# Altium integrated library TI Power Management Step-Down Regulator.IntLib: 531 symbols (part 24 of 32)
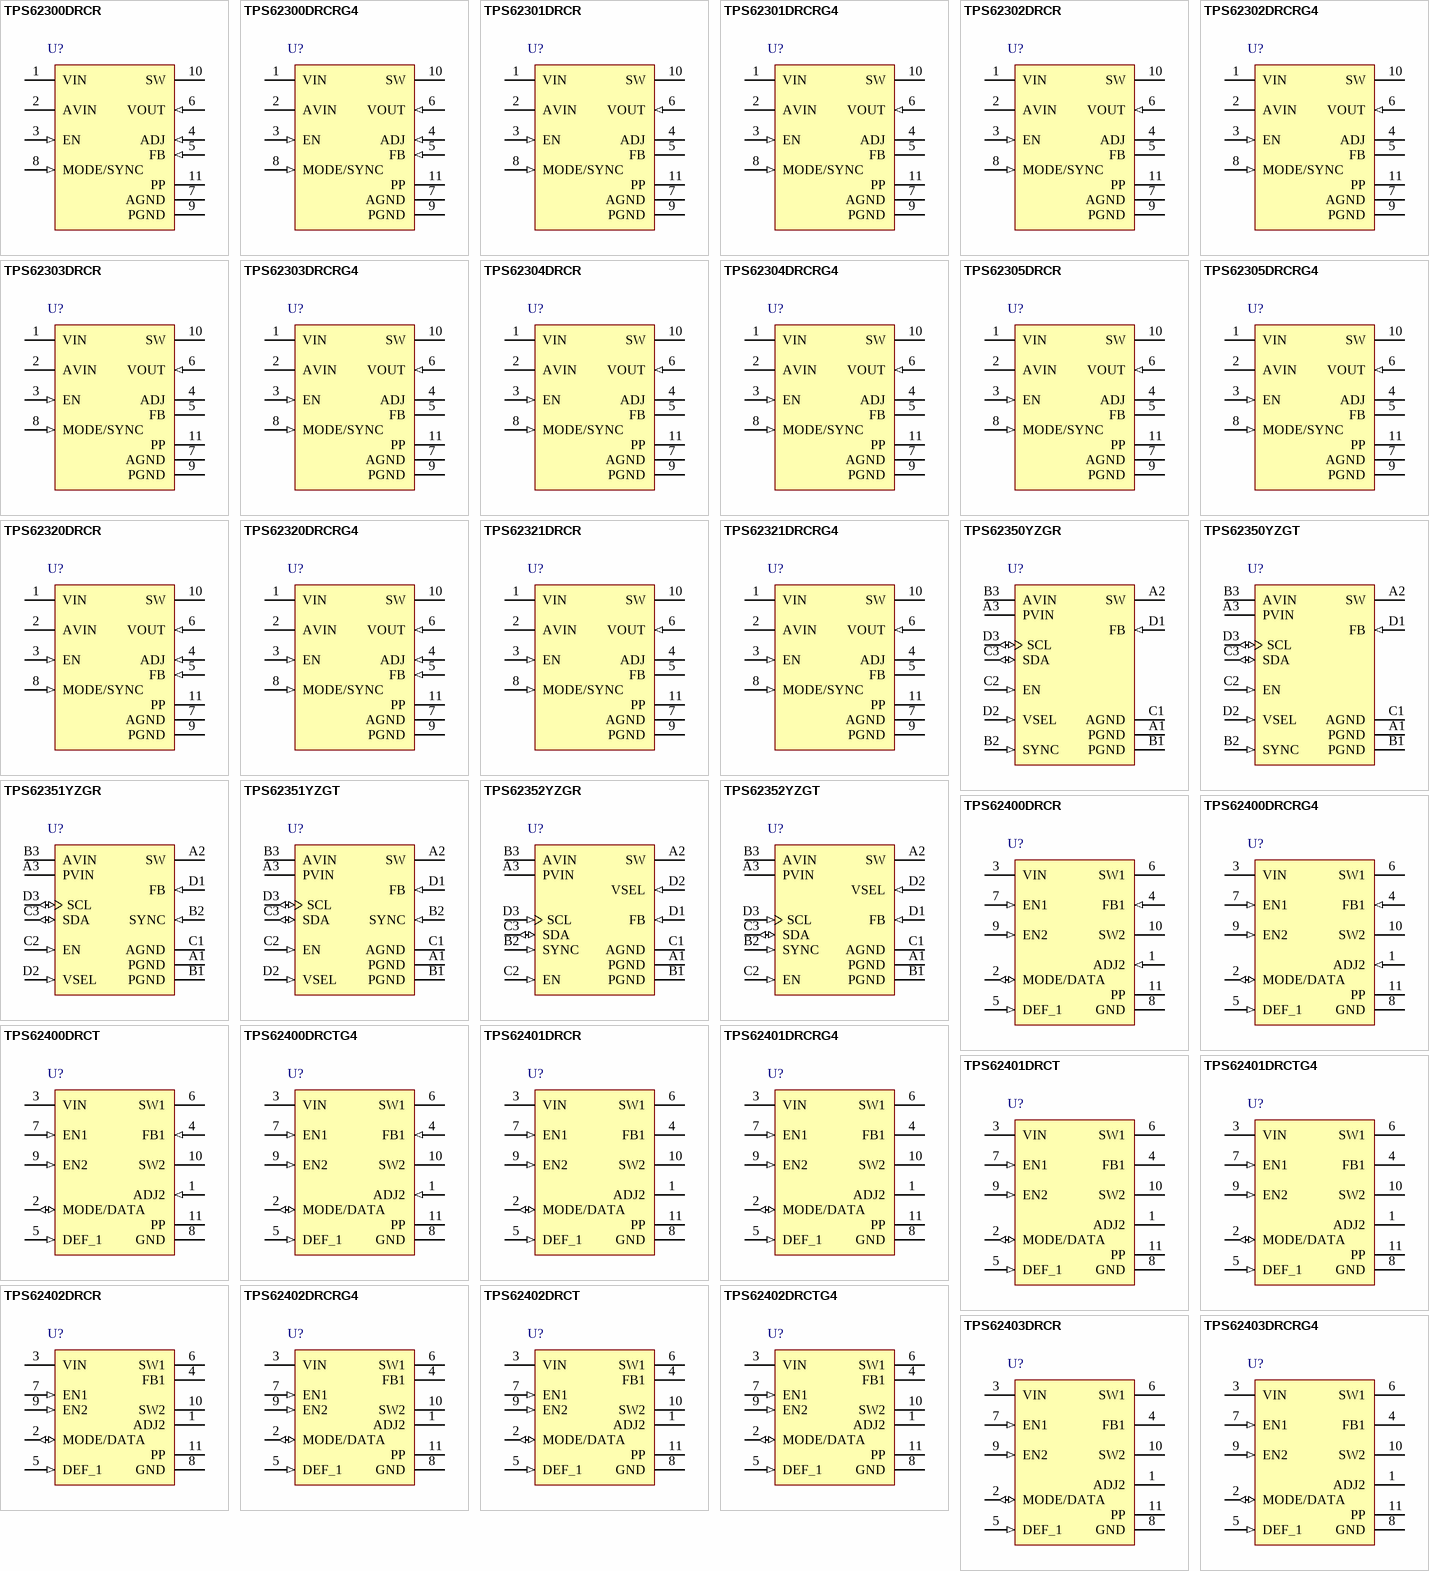
[diagram p41: symbols TPS62300DRCR to TPS62403DRCRG4]

## TPS62304DRCRG4
designator U?
Buck Step Down Regulator with 2.7 to 6 V Input and 1.2 V Output, -40 to 85 degC, 10-Pin SON (DRC), Green (RoHS & no Sb/Br); PartNumber: TPS62304DRCRG4; Manufacturer: Texas Instruments; Duty Cycle(Max)(%): 100; Iout(Max)(A): 0.5; Iq(Typ)(mA): 0.086; Preset Vout(V): 1.2; Rating: Catalog; Regulated Outputs(#): 1; SubFamily: Step-Down Regulator; Switch Current Limit(Typ)(A): 0.74; Synchronous Rectification: TRUE; Vin(Max)(V): 6; Vin(Min)(V): 2.7; DatasheetVersion: SLVS528E; PackageVersion: revL, Sep-2011; PackageReference: DRC10-2400X1650TP; PackageDescription: 10-Pin Plastic Small Outline No-Lead, 3 x 3 x 1 mm Body, 0.5 mm Pitch, Exposed Pad; Supplier 1: Digi-Key; Supplier Part Number 1: TPS62304DRCRG4-ND; Supplier 2: Newark; Supplier Part Number 2: 73K9610; Supplier 3: Mouser; Supplier Part Number 3: 595-TPS62304DRCRG4; Eco-Plan: Green (RoHS & no Sb/Br); Topology: Buck; Vout(Max)(V): 1.2; Vout(Min)(V): 1.2; Mounting Technology: Surface Mount; ComponentLink1Description: Datasheet; ComponentLink1URL: http://www.ti.com/general/docs/lit/getliterature.tsp?genericPartNumber=TPS62304&fileType=pdf; ComponentLink2Description: URL Link1; ComponentLink2URL: Samples URL:http://www.ti.com/product/tps62304#samples
footprint DRC10-2400X1650TP (SON, 10-Leads, Body 3x3mm, Pitch 0.5mm, Thermal Pad 2.4x1.65mm, TI Recommended)
pins: 1 VIN (power) "Supply voltage for output power stage.", 2 AVIN (power) "This is the input voltage pin of the device. Connect directly to the input bypass capacitor.", 3 EN (in) "This is the enable pin of the device. Connecting this pin to ground forces the device into shutdown mode. Pulling this pin to VI enables the device. This pin must not be left floating and must be terminated.", 4 ADJ "No Connect", 5 FB "No Connect", 6 VOUT (in) "Output feedback sense input. Connect VOUT to the converter’s output.", 7 AGND (power) "Analog ground. Connect to PGND via the PowerPAD underneath IC.", 8 MODE/SYNC (in) "Input for synchronization to external clock signal. This pin must not be left floating and must be terminated. Synchronizes the converter switching frequency to an external clock signal  MODE/SYNC = LOW (GND): The device is (See Datasheet)", 9 PGND (power) "Power ground.", 10 SW (power) "This is the switch pin of the converter and is connected to the drain of the internal Power MOSFETs.", 11 PP (power) "Internally connected to PGND."

## TPS62305DRCR
designator U?
Buck Step Down Regulator with 2.7 to 6 V Input and 1.875 V Output, -40 to 85 degC, 10-Pin SON (DRC), Green (RoHS & no Sb/Br); PartNumber: TPS62305DRCR; Manufacturer: Texas Instruments; Duty Cycle(Max)(%): 100; Iout(Max)(A): 0.5; Iq(Typ)(mA): 0.086; Preset Vout(V): 1.875; Rating: Catalog; Regulated Outputs(#): 1; SubFamily: Step-Down Regulator; Switch Current Limit(Typ)(A): 0.74; Synchronous Rectification: TRUE; Vin(Max)(V): 6; Vin(Min)(V): 2.7; DatasheetVersion: SLVS528E; PackageVersion: revL, Sep-2011; PackageReference: DRC10-2400X1650TP; PackageDescription: 10-Pin Plastic Small Outline No-Lead, 3 x 3 x 1 mm Body, 0.5 mm Pitch, Exposed Pad; Supplier 1: Digi-Key; Supplier Part Number 1: 296-18984-2-ND; Supplier 2: Digi-Key; Supplier Part Number 2: 296-18984-1-ND; Supplier 3: Digi-Key; Supplier Part Number 3: 296-18984-6-ND; Supplier 4: Newark; Supplier Part Number 4: 21J9249; Supplier 5: Mouser; Supplier Part Number 5: 595-TPS62305DRCR; Eco-Plan: Green (RoHS & no Sb/Br); Topology: Buck; Vout(Max)(V): 1.875; Vout(Min)(V): 1.875; Mounting Technology: Surface Mount; ComponentLink1Description: Datasheet; ComponentLink1URL: http://www.ti.com/general/docs/lit/getliterature.tsp?genericPartNumber=TPS62305&fileType=pdf; ComponentLink2Description: URL Link1; ComponentLink2URL: Samples URL:http://www.ti.com/product/tps62305#samples
footprint DRC10-2400X1650TP (SON, 10-Leads, Body 3x3mm, Pitch 0.5mm, Thermal Pad 2.4x1.65mm, TI Recommended)
pins: 1 VIN (power) "Supply voltage for output power stage.", 2 AVIN (power) "This is the input voltage pin of the device. Connect directly to the input bypass capacitor.", 3 EN (in) "This is the enable pin of the device. Connecting this pin to ground forces the device into shutdown mode. Pulling this pin to VI enables the device. This pin must not be left floating and must be terminated.", 4 ADJ "This is the internal reference voltage used to regulate VO. This pin is not connected on fixed output voltage version of TPS6230xDRC and TPS6232xDRC. Do not connect ADJ pin on fixed output voltage version of TPS6230xYZD, (See Datasheet)", 5 FB "This is the feedback pin of the device. For the adjustable version, an external resistor divider is connected to this pin. The internal voltage divider is disabled for the adjustable version. This pin is not connected on (See Datasheet)", 6 VOUT (in) "Output feedback sense input. Connect VOUT to the converter’s output.", 7 AGND (power) "Analog ground. Connect to PGND via the PowerPAD underneath IC.", 8 MODE/SYNC (in) "Input for synchronization to external clock signal. This pin must not be left floating and must be terminated. Synchronizes the converter switching frequency to an external clock signal MODE/SYNC = LOW (GND): The device is (See Datasheet)", 9 PGND (power) "Power ground.", 10 SW (power) "This is the switch pin of the converter and is connected to the drain of the internal Power MOSFETs.", 11 PP (power) "Internally connected to PGND."

## TPS62305DRCRG4
designator U?
Buck Step Down Regulator with 2.7 to 6 V Input and 1.875 V Output, -40 to 85 degC, 10-Pin SON (DRC), Green (RoHS & no Sb/Br); PartNumber: TPS62305DRCRG4; Manufacturer: Texas Instruments; Duty Cycle(Max)(%): 100; Iout(Max)(A): 0.5; Iq(Typ)(mA): 0.086; Preset Vout(V): 1.875; Rating: Catalog; Regulated Outputs(#): 1; SubFamily: Step-Down Regulator; Switch Current Limit(Typ)(A): 0.74; Synchronous Rectification: TRUE; Vin(Max)(V): 6; Vin(Min)(V): 2.7; DatasheetVersion: SLVS528E; PackageVersion: revL, Sep-2011; PackageReference: DRC10-2400X1650TP; PackageDescription: 10-Pin Plastic Small Outline No-Lead, 3 x 3 x 1 mm Body, 0.5 mm Pitch, Exposed Pad; Supplier 1: Digi-Key; Supplier Part Number 1: TPS62305DRCRG4-ND; Supplier 2: Newark; Supplier Part Number 2: 24K6044; Supplier 3: Mouser; Supplier Part Number 3: 595-TPS62305DRCRG4; Eco-Plan: Green (RoHS & no Sb/Br); Topology: Buck; Vout(Max)(V): 1.875; Vout(Min)(V): 1.875; Mounting Technology: Surface Mount; ComponentLink1Description: Datasheet; ComponentLink1URL: http://www.ti.com/general/docs/lit/getliterature.tsp?genericPartNumber=TPS62305&fileType=pdf; ComponentLink2Description: URL Link1; ComponentLink2URL: Samples URL:http://www.ti.com/product/tps62305#samples
footprint DRC10-2400X1650TP (SON, 10-Leads, Body 3x3mm, Pitch 0.5mm, Thermal Pad 2.4x1.65mm, TI Recommended)
pins: 1 VIN (power) "Supply voltage for output power stage.", 2 AVIN (power) "This is the input voltage pin of the device. Connect directly to the input bypass capacitor.", 3 EN (in) "This is the enable pin of the device. Connecting this pin to ground forces the device into shutdown mode. Pulling this pin to VI enables the device. This pin must not be left floating and must be terminated.", 4 ADJ "This is the internal reference voltage used to regulate VO. This pin is not connected on fixed output voltage version of TPS6230xDRC and TPS6232xDRC. Do not connect ADJ pin on fixed output voltage version of TPS6230xYZD, (See Datasheet)", 5 FB "This is the feedback pin of the device. For the adjustable version, an external resistor divider is connected to this pin. The internal voltage divider is disabled for the adjustable version. This pin is not connected on (See Datasheet)", 6 VOUT (in) "Output feedback sense input. Connect VOUT to the converter’s output.", 7 AGND (power) "Analog ground. Connect to PGND via the PowerPAD underneath IC.", 8 MODE/SYNC (in) "Input for synchronization to external clock signal. This pin must not be left floating and must be terminated. Synchronizes the converter switching frequency to an external clock signal MODE/SYNC = LOW (GND): The device is (See Datasheet)", 9 PGND (power) "Power ground.", 10 SW (power) "This is the switch pin of the converter and is connected to the drain of the internal Power MOSFETs.", 11 PP (power) "Internally connected to PGND."

## TPS62320DRCR
designator U?
Buck Adjustable Regulator with 2.7 to 6 V Input and 0.6 to 5.4 V Output, -40 to 85 degC, 10-Pin SON (DRC), Green (RoHS & no Sb/Br); PartNumber: TPS62320DRCR; Manufacturer: Texas Instruments; Duty Cycle(Max)(%): 100; Iout(Max)(A): 0.5; Iq(Typ)(mA): 0.086; Rating: Catalog; Regulated Outputs(#): 1; SubFamily: Step-Down Regulator; Switch Current Limit(Typ)(A): 0.74; Synchronous Rectification: TRUE; Vin(Max)(V): 6; Vin(Min)(V): 2.7; Vout(Max)(V): 5.4; Vout(Min)(V): 0.6; DatasheetVersion: SLVS528E; PackageVersion: revL, Sep-2011; PackageReference: DRC10-2400X1650TP; PackageDescription: 10-Pin Plastic Small Outline No-Lead, 3 x 3 x 1 mm Body, 0.5 mm Pitch, Exposed Pad; Supplier 1: Digi-Key; Supplier Part Number 1: 296-18985-2-ND; Supplier 2: Digi-Key; Supplier Part Number 2: 296-18985-1-ND; Supplier 3: Digi-Key; Supplier Part Number 3: 296-18985-6-ND; Supplier 4: Newark; Supplier Part Number 4: 21J9250; Supplier 5: Mouser; Supplier Part Number 5: 595-TPS62320DRCR; Eco-Plan: Green (RoHS & no Sb/Br); Topology: Buck; Mounting Technology: Surface Mount; ComponentLink1Description: Datasheet; ComponentLink1URL: http://www.ti.com/general/docs/lit/getliterature.tsp?genericPartNumber=TPS62320&fileType=pdf; ComponentLink2Description: URL Link1; ComponentLink2URL: Samples URL:http://www.ti.com/product/tps62320#samples
footprint DRC10-2400X1650TP (SON, 10-Leads, Body 3x3mm, Pitch 0.5mm, Thermal Pad 2.4x1.65mm, TI Recommended)
pins: 1 VIN (power) "Supply voltage for output power stage.", 2 AVIN (power) "This is the input voltage pin of the device. Connect directly to the input bypass capacitor.", 3 EN (in) "This is the enable pin of the device. Connecting this pin to ground forces the device into shutdown mode. Pulling this pin to VI enables the device. This pin must not be left floating and must be terminated.", 4 ADJ (in) "This is the internal reference voltage used to regulate VO. This pin is not connected on fixed output voltage version of TPS6230xDRC and TPS6232xDRC. Do not connect ADJ pin on fixed output voltage version of TPS6230xYZD, (See Datasheet)", 5 FB (in) "This is the feedback pin of the device. For the adjustable version, an external resistor divider is connected to this pin. The internal voltage divider is disabled for the adjustable version. This pin is not connected on (See Datasheet)", 6 VOUT (in) "Output feedback sense input. Connect VOUT to the converter’s output.", 7 AGND (power) "Analog ground. Connect to PGND via the PowerPAD underneath IC.", 8 MODE/SYNC (in) "Input for synchronization to external clock signal. This pin must not be left floating and must be terminated. Synchronizes the converter switching frequency to an external clock signal MODE/SYNC = LOW (GND): The device is (See Datasheet)", 9 PGND (power) "Power ground.", 10 SW (power) "This is the switch pin of the converter and is connected to the drain of the internal Power MOSFETs.", 11 PP (power) "Internally connected to PGND."

## TPS62320DRCRG4
designator U?
Buck Adjustable Regulator with 2.7 to 6 V Input and 0.6 to 5.4 V Output, -40 to 85 degC, 10-Pin SON (DRC), Green (RoHS & no Sb/Br); PartNumber: TPS62320DRCRG4; Manufacturer: Texas Instruments; Duty Cycle(Max)(%): 100; Iout(Max)(A): 0.5; Iq(Typ)(mA): 0.086; Rating: Catalog; Regulated Outputs(#): 1; SubFamily: Step-Down Regulator; Switch Current Limit(Typ)(A): 0.74; Synchronous Rectification: TRUE; Vin(Max)(V): 6; Vin(Min)(V): 2.7; Vout(Max)(V): 5.4; Vout(Min)(V): 0.6; DatasheetVersion: SLVS528E; PackageVersion: revL, Sep-2011; PackageReference: DRC10-2400X1650TP; PackageDescription: 10-Pin Plastic Small Outline No-Lead, 3 x 3 x 1 mm Body, 0.5 mm Pitch, Exposed Pad; Supplier 1: Digi-Key; Supplier Part Number 1: TPS62320DRCRG4-ND; Supplier 2: Newark; Supplier Part Number 2: 24K6045; Supplier 3: Mouser; Supplier Part Number 3: 595-TPS62320DRCRG4; Eco-Plan: Green (RoHS & no Sb/Br); Topology: Buck; Mounting Technology: Surface Mount; ComponentLink1Description: Datasheet; ComponentLink1URL: http://www.ti.com/general/docs/lit/getliterature.tsp?genericPartNumber=TPS62320&fileType=pdf; ComponentLink2Description: URL Link1; ComponentLink2URL: Samples URL:http://www.ti.com/product/tps62320#samples
footprint DRC10-2400X1650TP (SON, 10-Leads, Body 3x3mm, Pitch 0.5mm, Thermal Pad 2.4x1.65mm, TI Recommended)
pins: 1 VIN (power) "Supply voltage for output power stage.", 2 AVIN (power) "This is the input voltage pin of the device. Connect directly to the input bypass capacitor.", 3 EN (in) "This is the enable pin of the device. Connecting this pin to ground forces the device into shutdown mode. Pulling this pin to VI enables the device. This pin must not be left floating and must be terminated.", 4 ADJ (in) "This is the internal reference voltage used to regulate VO. This pin is not connected on fixed output voltage version of TPS6230xDRC and TPS6232xDRC. Do not connect ADJ pin on fixed output voltage version of TPS6230xYZD, (See Datasheet)", 5 FB (in) "This is the feedback pin of the device. For the adjustable version, an external resistor divider is connected to this pin. The internal voltage divider is disabled for the adjustable version. This pin is not connected on (See Datasheet)", 6 VOUT (in) "Output feedback sense input. Connect VOUT to the converter’s output.", 7 AGND (power) "Analog ground. Connect to PGND via the PowerPAD underneath IC.", 8 MODE/SYNC (in) "Input for synchronization to external clock signal. This pin must not be left floating and must be terminated. Synchronizes the converter switching frequency to an external clock signal MODE/SYNC = LOW (GND): The device is (See Datasheet)", 9 PGND (power) "Power ground.", 10 SW (power) "This is the switch pin of the converter and is connected to the drain of the internal Power MOSFETs.", 11 PP (power) "Internally connected to PGND."

## TPS62321DRCR
designator U?
Buck Step Down Regulator with 2.7 to 6 V Input and 1.5 V Output, -40 to 85 degC, 10-Pin SON (DRC), Green (RoHS & no Sb/Br); PartNumber: TPS62321DRCR; Manufacturer: Texas Instruments; Duty Cycle(Max)(%): 100; Iout(Max)(A): 0.5; Iq(Typ)(mA): 0.086; Preset Vout(V): 1.5; Rating: Catalog; Regulated Outputs(#): 1; SubFamily: Step-Down Regulator; Switch Current Limit(Typ)(A): 0.74; Synchronous Rectification: TRUE; Vin(Max)(V): 6; Vin(Min)(V): 2.7; DatasheetVersion: SLVS528E; PackageVersion: revL, Sep-2011; PackageReference: DRC10-2400X1650TP; PackageDescription: 10-Pin Plastic Small Outline No-Lead, 3 x 3 x 1 mm Body, 0.5 mm Pitch, Exposed Pad; Supplier 1: Digi-Key; Supplier Part Number 1: 296-18986-2-ND; Supplier 2: Digi-Key; Supplier Part Number 2: 296-18986-1-ND; Supplier 3: Digi-Key; Supplier Part Number 3: 296-18986-6-ND; Supplier 4: Newark; Supplier Part Number 4: 21J9255; Supplier 5: Mouser; Supplier Part Number 5: 595-TPS62321DRCR; Eco-Plan: Green (RoHS & no Sb/Br); Topology: Buck; Vout(Max)(V): 1.5; Vout(Min)(V): 1.5; Mounting Technology: Surface Mount; ComponentLink1Description: Datasheet; ComponentLink1URL: http://www.ti.com/general/docs/lit/getliterature.tsp?genericPartNumber=TPS62321&fileType=pdf; ComponentLink2Description: URL Link1; ComponentLink2URL: Samples URL:http://www.ti.com/product/tps62321#samples
footprint DRC10-2400X1650TP (SON, 10-Leads, Body 3x3mm, Pitch 0.5mm, Thermal Pad 2.4x1.65mm, TI Recommended)
pins: 1 VIN (power) "Supply voltage for output power stage.", 2 AVIN (power) "This is the input voltage pin of the device. Connect directly to the input bypass capacitor.", 3 EN (in) "This is the enable pin of the device. Connecting this pin to ground forces the device into shutdown mode. Pulling this pin to VI enables the device. This pin must not be left floating and must be terminated.", 4 ADJ "This is the internal reference voltage used to regulate VO. This pin is not connected on fixed output voltage version of TPS6230xDRC and TPS6232xDRC. Do not connect ADJ pin on fixed output voltage version of TPS6230xYZD, (See Datasheet)", 5 FB "This is the feedback pin of the device. For the adjustable version, an external resistor divider is connected to this pin. The internal voltage divider is disabled for the adjustable version. This pin is not connected on (See Datasheet)", 6 VOUT (in) "Output feedback sense input. Connect VOUT to the converter’s output.", 7 AGND (power) "Analog ground. Connect to PGND via the PowerPAD underneath IC.", 8 MODE/SYNC (in) "Input for synchronization to external clock signal. This pin must not be left floating and must be terminated. Synchronizes the converter switching frequency to an external clock signal MODE/SYNC = LOW (GND): The device is (See Datasheet)", 9 PGND (power) "Power ground.", 10 SW (power) "This is the switch pin of the converter and is connected to the drain of the internal Power MOSFETs.", 11 PP (power) "Internally connected to PGND."

## TPS62321DRCRG4
designator U?
Buck Step Down Regulator with 2.7 to 6 V Input and 1.5 V Output, -40 to 85 degC, 10-Pin SON (DRC), Green (RoHS & no Sb/Br); PartNumber: TPS62321DRCRG4; Manufacturer: Texas Instruments; Duty Cycle(Max)(%): 100; Iout(Max)(A): 0.5; Iq(Typ)(mA): 0.086; Preset Vout(V): 1.5; Rating: Catalog; Regulated Outputs(#): 1; SubFamily: Step-Down Regulator; Switch Current Limit(Typ)(A): 0.74; Synchronous Rectification: TRUE; Vin(Max)(V): 6; Vin(Min)(V): 2.7; DatasheetVersion: SLVS528E; PackageVersion: revL, Sep-2011; PackageReference: DRC10-2400X1650TP; PackageDescription: 10-Pin Plastic Small Outline No-Lead, 3 x 3 x 1 mm Body, 0.5 mm Pitch, Exposed Pad; Supplier 1: Digi-Key; Supplier Part Number 1: TPS62321DRCRG4-ND; Supplier 2: Newark; Supplier Part Number 2: 24K6046; Supplier 3: Mouser; Supplier Part Number 3: 595-TPS62321DRCRG4; Eco-Plan: Green (RoHS & no Sb/Br); Topology: Buck; Vout(Max)(V): 1.5; Vout(Min)(V): 1.5; Mounting Technology: Surface Mount; ComponentLink1Description: Datasheet; ComponentLink1URL: http://www.ti.com/general/docs/lit/getliterature.tsp?genericPartNumber=TPS62321&fileType=pdf; ComponentLink2Description: URL Link1; ComponentLink2URL: Samples URL:http://www.ti.com/product/tps62321#samples
footprint DRC10-2400X1650TP (SON, 10-Leads, Body 3x3mm, Pitch 0.5mm, Thermal Pad 2.4x1.65mm, TI Recommended)
pins: 1 VIN (power) "Supply voltage for output power stage.", 2 AVIN (power) "This is the input voltage pin of the device. Connect directly to the input bypass capacitor.", 3 EN (in) "This is the enable pin of the device. Connecting this pin to ground forces the device into shutdown mode. Pulling this pin to VI enables the device. This pin must not be left floating and must be terminated.", 4 ADJ "This is the internal reference voltage used to regulate VO. This pin is not connected on fixed output voltage version of TPS6230xDRC and TPS6232xDRC. Do not connect ADJ pin on fixed output voltage version of TPS6230xYZD, (See Datasheet)", 5 FB "This is the feedback pin of the device. For the adjustable version, an external resistor divider is connected to this pin. The internal voltage divider is disabled for the adjustable version. This pin is not connected on (See Datasheet)", 6 VOUT (in) "Output feedback sense input. Connect VOUT to the converter’s output.", 7 AGND (power) "Analog ground. Connect to PGND via the PowerPAD underneath IC.", 8 MODE/SYNC (in) "Input for synchronization to external clock signal. This pin must not be left floating and must be terminated. Synchronizes the converter switching frequency to an external clock signal MODE/SYNC = LOW (GND): The device is (See Datasheet)", 9 PGND (power) "Power ground.", 10 SW (power) "This is the switch pin of the converter and is connected to the drain of the internal Power MOSFETs.", 11 PP (power) "Internally connected to PGND."

## TPS62350YZGR
designator U?
Buck Regulator with 2.7 to 5.5 V Input and 0.75 to 1.5375 V Output, -40 to 85 degC, 12-Pin DSBGA (YZG), Green (RoHS & no Sb/Br); PartNumber: TPS62350YZGR; Manufacturer: Texas Instruments; Duty Cycle(Max)(%): 80; Dynamic Voltage Scaling: TRUE; Iout(Max)(A): 0.8; Iq(Typ)(mA): 0.028; Rating: Catalog; Regulated Outputs(#): 1; SubFamily: Step-Down Regulator; Switch Current Limit(Typ)(A): 1.35; Vin(Max)(V): 5.5; Vin(Min)(V): 2.7; Vout(Max)(V): 1.5375; Vout(Min)(V): 0.75; DatasheetVersion: SLVS540E; PackageVersion: revD, Jun-2008; PackageReference: YZG12; PackageDescription: 12-Ball Die-Size Ball Grid Array, 2.43 x 1.96 mm Body, 0.5 mm Pitch; Supplier 1: Digi-Key; Supplier Part Number 1: 296-20662-2-ND; Supplier 2: Digi-Key; Supplier Part Number 2: 296-20662-1-ND; Supplier 3: Newark; Supplier Part Number 3: 04M0262; Supplier 4: Mouser; Supplier Part Number 4: 595-TPS62350YZGR; Eco-Plan: Green (RoHS & no Sb/Br); Synchronous Rectification: TRUE; Topology: Buck; Mounting Technology: Surface Mount; ComponentLink1Description: Datasheet; ComponentLink1URL: http://www.ti.com/general/docs/lit/getliterature.tsp?genericPartNumber=TPS62350&fileType=pdf; ComponentLink2Description: URL Link1; ComponentLink2URL: Samples URL:http://www.ti.com/product/tps62350#samples
footprint YZG12 (BGA, 12-Leads, Body 2.43x1.96mm, Pitch 0.5mm)
pins: A1 PGND (power) "Power ground. Connect to AGND underneath IC.", A2 SW (power) "This is the switch pin of the converter and connected to the drain of the internal power MOSFETs.", A3 PVIN (power) "Supply voltage for output power stage.", B1 PGND (power) "Power ground. Connect to AGND underneath IC.", B2 SYNC (in) "Input for synchronization to external clock signal. Synchronizes the converter switching frequency to an external clock signal. This pin must not be left floating and must be terminated. Connecting SYNC to static high or low (See Datasheet)", B3 AVIN (power) "This is the input voltage pin of the device. Connect directly to the input bypass capacitor.", C1 AGND (power) "Analog ground.", C2 EN (in) "This is the enable pin of the device. Connect this pin to ground forces the device into shutdown mode. Pulling this pin to VI enables the device. On the rising edge of the enable pin, all the registers are reset with their (See Datasheet)", C3 SDA (io) "Serial interface address/data line.", D1 FB (in) "Output feedback sense input. Connect FB to the converter output.", D2 VSEL (in) "VSEL signal is primarily used to scale the output voltage and to set the TPS6235x operation between active mode (VSEL=HIGH) and sleep mode (VSEL=LOW). The mode of operation can also be adapted by I2C settings. This pin must (See Datasheet)", D3 SCL (io) "Serial interface clock line."

## TPS62350YZGT
designator U?
Buck Regulator with 2.7 to 5.5 V Input and 0.75 to 1.5375 V Output, -40 to 85 degC, 12-Pin DSBGA (YZG), Green (RoHS & no Sb/Br); PartNumber: TPS62350YZGT; Manufacturer: Texas Instruments; Duty Cycle(Max)(%): 80; Dynamic Voltage Scaling: TRUE; Iout(Max)(A): 0.8; Iq(Typ)(mA): 0.028; Rating: Catalog; Regulated Outputs(#): 1; SubFamily: Step-Down Regulator; Switch Current Limit(Typ)(A): 1.35; Vin(Max)(V): 5.5; Vin(Min)(V): 2.7; Vout(Max)(V): 1.5375; Vout(Min)(V): 0.75; DatasheetVersion: SLVS540E; PackageVersion: revD, Jun-2008; PackageReference: YZG12; PackageDescription: 12-Ball Die-Size Ball Grid Array, 2.43 x 1.96 mm Body, 0.5 mm Pitch; Supplier 1: Digi-Key; Supplier Part Number 1: 296-32508-2-ND; Supplier 2: Digi-Key; Supplier Part Number 2: 296-32508-1-ND; Supplier 3: Digi-Key; Supplier Part Number 3: 296-32508-6-ND; Supplier 4: Farnell; Supplier Part Number 4: 1755465; Supplier 5: Farnell; Supplier Part Number 5: 1755465RL; Supplier 6: Newark; Supplier Part Number 6: 34R9221; Supplier 7: Newark; Supplier Part Number 7: 04M0263; Supplier 8: Mouser; Supplier Part Number 8: 595-TPS62350YZGT; Eco-Plan: Green (RoHS & no Sb/Br); Synchronous Rectification: TRUE; Topology: Buck; Mounting Technology: Surface Mount; ComponentLink1Description: Datasheet; ComponentLink1URL: http://www.ti.com/general/docs/lit/getliterature.tsp?genericPartNumber=TPS62350&fileType=pdf; ComponentLink2Description: URL Link1; ComponentLink2URL: Samples URL:http://www.ti.com/product/tps54611#samples
footprint YZG12 (BGA, 12-Leads, Body 2.43x1.96mm, Pitch 0.5mm)
pins: A1 PGND (power) "Power ground. Connect to AGND underneath IC.", A2 SW (power) "This is the switch pin of the converter and connected to the drain of the internal power MOSFETs.", A3 PVIN (power) "Supply voltage for output power stage.", B1 PGND (power) "Power ground. Connect to AGND underneath IC.", B2 SYNC (in) "Input for synchronization to external clock signal. Synchronizes the converter switching frequency to an external clock signal. This pin must not be left floating and must be terminated. Connecting SYNC to static high or low (See Datasheet)", B3 AVIN (power) "This is the input voltage pin of the device. Connect directly to the input bypass capacitor.", C1 AGND (power) "Analog ground.", C2 EN (in) "This is the enable pin of the device. Connect this pin to ground forces the device into shutdown mode. Pulling this pin to VI enables the device. On the rising edge of the enable pin, all the registers are reset with their (See Datasheet)", C3 SDA (io) "Serial interface address/data line.", D1 FB (in) "Output feedback sense input. Connect FB to the converter output.", D2 VSEL (in) "VSEL signal is primarily used to scale the output voltage and to set the TPS6235x operation between active mode (VSEL=HIGH) and sleep mode (VSEL=LOW). The mode of operation can also be adapted by I2C settings. This pin must (See Datasheet)", D3 SCL (io) "Serial interface clock line."

## TPS62351YZGR
designator U?
Buck Regulator with 2.7 to 5.5 V Input and 0.9 to 1.6875 V Output, -40 to 85 degC, 12-Pin DSBGA (YZG), Green (RoHS & no Sb/Br); PartNumber: TPS62351YZGR; Manufacturer: Texas Instruments; Duty Cycle(Max)(%): 80; Dynamic Voltage Scaling: TRUE; Iout(Max)(A): 0.8; Iq(Typ)(mA): 0.028; Rating: Catalog; Regulated Outputs(#): 1; SubFamily: Step-Down Regulator; Switch Current Limit(Typ)(A): 1.35; Vin(Max)(V): 5.5; Vin(Min)(V): 2.7; Vout(Max)(V): 1.6875; Vout(Min)(V): 0.9; DatasheetVersion: SLVS540E; PackageVersion: revD, Jun-2008; PackageReference: YZG12; PackageDescription: 12-Ball Die-Size Ball Grid Array, 2.43 x 1.96 mm Body, 0.5 mm Pitch; Supplier 1: Digi-Key; Supplier Part Number 1: 296-21427-2-ND; Supplier 2: Digi-Key; Supplier Part Number 2: 296-21427-1-ND; Supplier 3: Digi-Key; Supplier Part Number 3: 296-21427-6-ND; Supplier 4: Newark; Supplier Part Number 4: 27M1086; Supplier 5: Mouser; Supplier Part Number 5: 595-TPS62351YZGR; Eco-Plan: Green (RoHS & no Sb/Br); Synchronous Rectification: TRUE; Topology: Buck; Mounting Technology: Surface Mount; ComponentLink1Description: Datasheet; ComponentLink1URL: http://www.ti.com/general/docs/lit/getliterature.tsp?genericPartNumber=TPS62351&fileType=pdf; ComponentLink2Description: URL Link1; ComponentLink2URL: Samples URL:http://www.ti.com/product/tps62351#samples
footprint YZG12 (BGA, 12-Leads, Body 2.43x1.96mm, Pitch 0.5mm)
pins: A1 PGND (power) "Power ground. Connect to AGND underneath IC.", A2 SW (power) "This is the switch pin of the converter and connected to the drain of the internal power MOSFETs.", A3 PVIN (power) "Supply voltage for output power stage.", B1 PGND (power) "Power ground. Connect to AGND underneath IC.", B2 SYNC (in) "Input for synchronization to external clock signal. Synchronizes the converter switching frequency to an external clock signal. This pin must not be left floating and must be terminated. Connecting SYNC to static high or low (See Datasheet)", B3 AVIN (power) "This is the input voltage pin of the device. Connect directly to the input bypass capacitor.", C1 AGND (power) "Analog ground.", C2 EN (in) "This is the enable pin of the device. Connect this pin to ground forces the device into shutdown Mode. Pulling this pin to VI enables the device. On the rising edge of the enable pin, all the registers are reset with their (See Datasheet)", C3 SDA (io) "Serial interface address/data line.", D1 FB (in) "Output feedback sense input. Connect FB to the converter output.", D2 VSEL (in) "VSEL signal is primarily used to scale the output voltage and to set the TPS6235x operation between active mode (VSEL=HIGH) and sleep mode (VSEL=LOW). The mode of operation can also be adapted by I2C settings. This pin must (See Datasheet)", D3 SCL (io) "Serial interface clock line"

## TPS62351YZGT
designator U?
Buck Regulator with 2.7 to 5.5 V Input and 0.9 to 1.6875 V Output, -40 to 85 degC, 12-Pin DSBGA (YZG), Green (RoHS & no Sb/Br); PartNumber: TPS62351YZGT; Manufacturer: Texas Instruments; Duty Cycle(Max)(%): 80; Dynamic Voltage Scaling: TRUE; Iout(Max)(A): 0.8; Iq(Typ)(mA): 0.028; Rating: Catalog; Regulated Outputs(#): 1; SubFamily: Step-Down Regulator; Switch Current Limit(Typ)(A): 1.35; Vin(Max)(V): 5.5; Vin(Min)(V): 2.7; Vout(Max)(V): 1.6875; Vout(Min)(V): 0.9; DatasheetVersion: SLVS540E; PackageVersion: revD, Jun-2008; PackageReference: YZG12; PackageDescription: 12-Ball Die-Size Ball Grid Array, 2.43 x 1.96 mm Body, 0.5 mm Pitch; Supplier 1: Digi-Key; Supplier Part Number 1: 296-32509-2-ND; Supplier 2: Digi-Key; Supplier Part Number 2: 296-32509-1-ND; Supplier 3: Digi-Key; Supplier Part Number 3: 296-32509-6-ND; Supplier 4: Farnell; Supplier Part Number 4: 1755466; Supplier 5: Farnell; Supplier Part Number 5: 1755466RL; Supplier 6: Newark; Supplier Part Number 6: 34R9222; Supplier 7: Mouser; Supplier Part Number 7: 595-TPS62351YZGT; Eco-Plan: Green (RoHS & no Sb/Br); Synchronous Rectification: TRUE; Topology: Buck; Mounting Technology: Surface Mount; ComponentLink1Description: Datasheet; ComponentLink1URL: http://www.ti.com/general/docs/lit/getliterature.tsp?genericPartNumber=TPS62351&fileType=pdf; ComponentLink2Description: URL Link1; ComponentLink2URL: Samples URL:http://www.ti.com/product/tps54611#samples
footprint YZG12 (BGA, 12-Leads, Body 2.43x1.96mm, Pitch 0.5mm)
pins: A1 PGND (power) "Power ground. Connect to AGND underneath IC.", A2 SW (power) "This is the switch pin of the converter and connected to the drain of the internal power MOSFETs.", A3 PVIN (power) "Supply voltage for output power stage.", B1 PGND (power) "Power ground. Connect to AGND underneath IC.", B2 SYNC (in) "Input for synchronization to external clock signal. Synchronizes the converter switching frequency to an external clock signal. This pin must not be left floating and must be terminated. Connecting SYNC to static high or low (See Datasheet)", B3 AVIN (power) "This is the input voltage pin of the device. Connect directly to the input bypass capacitor.", C1 AGND (power) "Analog ground.", C2 EN (in) "This is the enable pin of the device. Connect this pin to ground forces the device into shutdown Mode. Pulling this pin to VI enables the device. On the rising edge of the enable pin, all the registers are reset with their (See Datasheet)", C3 SDA (io) "Serial interface address/data line.", D1 FB (in) "Output feedback sense input. Connect FB to the converter output.", D2 VSEL (in) "VSEL signal is primarily used to scale the output voltage and to set the TPS6235x operation between active mode (VSEL=HIGH) and sleep mode (VSEL=LOW). The mode of operation can also be adapted by I2C settings. This pin must (See Datasheet)", D3 SCL (io) "Serial interface clock line"

## TPS62352YZGR
designator U?
Buck Regulator with 2.7 to 5.5 V Input and 0.75 to 1.4375 V Output, -40 to 85 degC, 12-Pin DSBGA (YZG), Green (RoHS & no Sb/Br); PartNumber: TPS62352YZGR; Manufacturer: Texas Instruments; Duty Cycle(Max)(%): 80; Dynamic Voltage Scaling: TRUE; Iout(Max)(A): 0.8; Iq(Typ)(mA): 0.028; Rating: Catalog; Regulated Outputs(#): 1; SubFamily: Step-Down Regulator; Switch Current Limit(Typ)(A): 1.35; Vin(Max)(V): 5.5; Vin(Min)(V): 2.7; Vout(Max)(V): 1.4375; Vout(Min)(V): 0.75; DatasheetVersion: SLVS540E; PackageVersion: revD, Jun-2008; PackageReference: YZG12; PackageDescription: 12-Ball Die-Size Ball Grid Array, 2.43 x 1.96 mm Body, 0.5 mm Pitch; Supplier 1: Digi-Key; Supplier Part Number 1: 296-21428-2-ND; Supplier 2: Digi-Key; Supplier Part Number 2: 296-21428-1-ND; Supplier 3: Digi-Key; Supplier Part Number 3: 296-21428-6-ND; Supplier 4: Newark; Supplier Part Number 4: 27M1088; Supplier 5: Mouser; Supplier Part Number 5: 595-TPS62352YZGR; Eco-Plan: Green (RoHS & no Sb/Br); Synchronous Rectification: TRUE; Topology: Buck; Mounting Technology: Surface Mount; ComponentLink1Description: Datasheet; ComponentLink1URL: http://www.ti.com/general/docs/lit/getliterature.tsp?genericPartNumber=TPS62352&fileType=pdf; ComponentLink2Description: URL Link1; ComponentLink2URL: Samples URL:http://www.ti.com/product/tps62352#samples
footprint YZG12 (BGA, 12-Leads, Body 2.43x1.96mm, Pitch 0.5mm)
pins: A1 PGND (power) "Power ground. Connect to AGND underneath IC.", A2 SW (power) "This is the switch pin of the converter and connected to the drain of the internal power MOSFETs.", A3 PVIN (power) "Supply voltage for output power stage.", B1 PGND (power) "Power ground. Connect to AGND underneath IC.", B2 SYNC (in) "Input for synchronization to external clock signal. Synchronizes the converter switching frequency to an external clock signal. This pin must not be left floating and must be terminated. Connecting SYNC to static high or low (See Datasheet)", B3 AVIN (power) "This is the input voltage pin of the device. Connect directly to the input bypass capacitor.", C1 AGND (power) "Analog ground", C2 EN (in) "This is the enable pin of the device. Connect this pin to ground forces the device into shutdown mode. Pulling this pin to VI enables the device. On the rising edge of the enable pin, all the registers are reset with their (See Datasheet)", C3 SDA (io) "Serial interface address/data line", D1 FB (in) "Output feedback sense input. Connect FB to the converter output.", D2 VSEL (in) "VSEL signal is primarily used to scale the output voltage and to set the TPS6235x operationbetween active mode (VSEL=HIGH) and sleep mode (VSEL=LOW). The mode of operation can also be adapted by I2C settings. This pin must (See Datasheet)", D3 SCL (in) "Serial interface clock line"

## TPS62352YZGT
designator U?
Buck Regulator with 2.7 to 5.5 V Input and 0.75 to 1.4375 V Output, -40 to 85 degC, 12-Pin DSBGA (YZG), Green (RoHS & no Sb/Br); PartNumber: TPS62352YZGT; Manufacturer: Texas Instruments; Duty Cycle(Max)(%): 80; Dynamic Voltage Scaling: TRUE; Iout(Max)(A): 0.8; Iq(Typ)(mA): 0.028; Rating: Catalog; Regulated Outputs(#): 1; SubFamily: Step-Down Regulator; Switch Current Limit(Typ)(A): 1.35; Vin(Max)(V): 5.5; Vin(Min)(V): 2.7; Vout(Max)(V): 1.4375; Vout(Min)(V): 0.75; DatasheetVersion: SLVS540E; PackageVersion: revD, Jun-2008; PackageReference: YZG12; PackageDescription: 12-Ball Die-Size Ball Grid Array, 2.43 x 1.96 mm Body, 0.5 mm Pitch; Supplier 1: Digi-Key; Supplier Part Number 1: TPS62352YZGT-ND; Supplier 2: Farnell; Supplier Part Number 2: 1755467RL; Supplier 3: Farnell; Supplier Part Number 3: 1755467; Supplier 4: Newark; Supplier Part Number 4: 34R9223; Supplier 5: Mouser; Supplier Part Number 5: 595-TPS62352YZGT; Eco-Plan: Green (RoHS & no Sb/Br); Synchronous Rectification: TRUE; Topology: Buck; Mounting Technology: Surface Mount; ComponentLink1Description: Datasheet; ComponentLink1URL: http://www.ti.com/general/docs/lit/getliterature.tsp?genericPartNumber=TPS62352&fileType=pdf; ComponentLink2Description: URL Link1; ComponentLink2URL: Samples URL:http://www.ti.com/product/tps54611#samples
footprint YZG12 (BGA, 12-Leads, Body 2.43x1.96mm, Pitch 0.5mm)
pins: A1 PGND (power) "Power ground. Connect to AGND underneath IC.", A2 SW (power) "This is the switch pin of the converter and connected to the drain of the internal power MOSFETs.", A3 PVIN (power) "Supply voltage for output power stage.", B1 PGND (power) "Power ground. Connect to AGND underneath IC.", B2 SYNC (in) "Input for synchronization to external clock signal. Synchronizes the converter switching frequency to an external clock signal. This pin must not be left floating and must be terminated. Connecting SYNC to static high or low (See Datasheet)", B3 AVIN (power) "This is the input voltage pin of the device. Connect directly to the input bypass capacitor.", C1 AGND (power) "Analog ground", C2 EN (in) "This is the enable pin of the device. Connect this pin to ground forces the device into shutdown mode. Pulling this pin to VI enables the device. On the rising edge of the enable pin, all the registers are reset with their (See Datasheet)", C3 SDA (io) "Serial interface address/data line", D1 FB (in) "Output feedback sense input. Connect FB to the converter output.", D2 VSEL (in) "VSEL signal is primarily used to scale the output voltage and to set the TPS6235x operationbetween active mode (VSEL=HIGH) and sleep mode (VSEL=LOW). The mode of operation can also be adapted by I2C settings. This pin must (See Datasheet)", D3 SCL (in) "Serial interface clock line"

## TPS62400DRCR
designator U?
Buck Adjustable Regulator with 2.5 to 6 V Input and 0.6 to 6 V Output, -40 to 85 degC, 10-Pin SON (DRC), Green (RoHS & no Sb/Br); PartNumber: TPS62400DRCR; Manufacturer: Texas Instruments; Duty Cycle(Max)(%): 100; Dynamic Voltage Scaling: TRUE; Iout(Max)(A): 0.4; Iout2(Max)(A): 0.6; Iq(Typ)(mA): 0.032; Rating: Catalog; Regulated Outputs(#): 2; SubFamily: Step-Down Regulator; Switch Current Limit(Typ)(A): 1; Vin(Max)(V): 6; Vin(Min)(V): 2.5; DatasheetVersion: SLVS681E; PackageVersion: revL, Sep-2011; PackageReference: DRC10-2400X1650TP; PackageDescription: 10-Pin Plastic Small Outline No-Lead, 3 x 3 x 1 mm Body, 0.5 mm Pitch, Exposed Pad; Supplier 1: Digi-Key; Supplier Part Number 1: 296-25491-2-ND; Supplier 2: Digi-Key; Supplier Part Number 2: 296-25491-1-ND; Supplier 3: Digi-Key; Supplier Part Number 3: 296-25491-6-ND; Supplier 4: Newark; Supplier Part Number 4: 10M0637; Supplier 5: Mouser; Supplier Part Number 5: 595-TPS62400DRCR; Eco-Plan: Green (RoHS & no Sb/Br); Synchronous Rectification: TRUE; Topology: Buck; Vout(Max)(V): 6; Vout(Min)(V): 0.6; Vout2(Max)(V): 6; Vout2(Min)(V): 0.6; Mounting Technology: Surface Mount; ComponentLink1Description: Datasheet; ComponentLink1URL: http://www.ti.com/general/docs/lit/getliterature.tsp?genericPartNumber=TPS62400&fileType=pdf; ComponentLink2Description: URL Link1; ComponentLink2URL: Samples URL:http://www.ti.com/product/tps62400#samples
footprint DRC10-2400X1650TP (SON, 10-Leads, Body 3x3mm, Pitch 0.5mm, Thermal Pad 2.4x1.65mm, TI Recommended)
pins: 1 ADJ2 (in) "Input to adjust output voltage of converter 2. In adjustable version (TPS62400) connect a external resistor divider between VOUT2, this pin and GND to set output voltage between 0.6V and VIN. At fixed output voltage version (See Datasheet)", 2 MODE/DATA (io) "This Pin has 2 functions: 1. Operation Mode selection: With low level, Power Save Mode is enabled where the device operates in PFM mode at light loads and enters automatically PWM mode at heavy loads. Pulling this PIN to (See Datasheet)", 3 VIN (power) "Supply voltage, connect to VBAT, 2.5V to 6V", 4 FB1 (in) "Direct feedback voltage sense input of converter 1, connect directly to Vout 1. An internal feed forward capacitor is connected between this pin and the error amplifier. In case of fixed output voltage versions or when the (See Datasheet)", 5 DEF_1 (in) "This pin defines the output voltage of converter 1. The pin acts either as analog input for output voltage setting via external resistors (TPS62400). For the TPS62400, an external resistor network needs to be connected to (See Datasheet)", 6 SW1 (power) "Switch Pin of Converter1. Connect to Inductor", 7 EN1 (in) "Enable Input for Converter1, active high", 8 GND (power) "GND for both converters; connect this pin to the PowerPAD", 9 EN2 (in) "Enable Input for Converter 2, active high", 10 SW2 (power) "Switch Pin of Converter 2. Connect to Inductor.", 11 PP (power) "Connect to GND"

## TPS62400DRCRG4
designator U?
Buck Adjustable Regulator with 2.5 to 6 V Input and 0.6 to 6 V Output, -40 to 85 degC, 10-Pin SON (DRC), Green (RoHS & no Sb/Br); PartNumber: TPS62400DRCRG4; Manufacturer: Texas Instruments; Duty Cycle(Max)(%): 100; Dynamic Voltage Scaling: TRUE; Iout(Max)(A): 0.4; Iout2(Max)(A): 0.6; Iq(Typ)(mA): 0.032; Rating: Catalog; Regulated Outputs(#): 2; SubFamily: Step-Down Regulator; Switch Current Limit(Typ)(A): 1; Vin(Max)(V): 6; Vin(Min)(V): 2.5; DatasheetVersion: SLVS681E; PackageVersion: revL, Sep-2011; PackageReference: DRC10-2400X1650TP; PackageDescription: 10-Pin Plastic Small Outline No-Lead, 3 x 3 x 1 mm Body, 0.5 mm Pitch, Exposed Pad; Supplier 1: Digi-Key; Supplier Part Number 1: TPS62400DRCRG4-ND; Supplier 2: Newark; Supplier Part Number 2: 14M2500; Supplier 3: Mouser; Supplier Part Number 3: 595-TPS62400DRCRG4; Eco-Plan: Green (RoHS & no Sb/Br); Synchronous Rectification: TRUE; Topology: Buck; Vout(Max)(V): 6; Vout(Min)(V): 0.6; Vout2(Max)(V): 6; Vout2(Min)(V): 0.6; Mounting Technology: Surface Mount; ComponentLink1Description: Datasheet; ComponentLink1URL: http://www.ti.com/general/docs/lit/getliterature.tsp?genericPartNumber=TPS62400&fileType=pdf; ComponentLink2Description: URL Link1; ComponentLink2URL: Samples URL:http://www.ti.com/product/tps62400#samples
footprint DRC10-2400X1650TP (SON, 10-Leads, Body 3x3mm, Pitch 0.5mm, Thermal Pad 2.4x1.65mm, TI Recommended)
pins: 1 ADJ2 (in) "Input to adjust output voltage of converter 2. In adjustable version (TPS62400) connect a external resistor divider between VOUT2, this pin and GND to set output voltage between 0.6V and VIN. At fixed output voltage version (See Datasheet)", 2 MODE/DATA (io) "This Pin has 2 functions: 1. Operation Mode selection: With low level, Power Save Mode is enabled where the device operates in PFM mode at light loads and enters automatically PWM mode at heavy loads. Pulling this PIN to (See Datasheet)", 3 VIN (power) "Supply voltage, connect to VBAT, 2.5V to 6V", 4 FB1 (in) "Direct feedback voltage sense input of converter 1, connect directly to Vout 1. An internal feed forward capacitor is connected between this pin and the error amplifier. In case of fixed output voltage versions or when the (See Datasheet)", 5 DEF_1 (in) "This pin defines the output voltage of converter 1. The pin acts either as analog input for output voltage setting via external resistors (TPS62400). For the TPS62400, an external resistor network needs to be connected to (See Datasheet)", 6 SW1 (power) "Switch Pin of Converter1. Connect to Inductor", 7 EN1 (in) "Enable Input for Converter1, active high", 8 GND (power) "GND for both converters; connect this pin to the PowerPAD", 9 EN2 (in) "Enable Input for Converter 2, active high", 10 SW2 (power) "Switch Pin of Converter 2. Connect to Inductor.", 11 PP (power) "Connect to GND"

## TPS62400DRCT
designator U?
Buck Adjustable Regulator with 2.5 to 6 V Input and 0.6 to 6 V Output, -40 to 85 degC, 10-Pin SON (DRC), Green (RoHS & no Sb/Br); PartNumber: TPS62400DRCT; Manufacturer: Texas Instruments; Duty Cycle(Max)(%): 100; Dynamic Voltage Scaling: TRUE; Iout(Max)(A): 0.4; Iout2(Max)(A): 0.6; Iq(Typ)(mA): 0.032; Rating: Catalog; Regulated Outputs(#): 2; SubFamily: Step-Down Regulator; Switch Current Limit(Typ)(A): 1; Vin(Max)(V): 6; Vin(Min)(V): 2.5; DatasheetVersion: SLVS681E; PackageVersion: revL, Sep-2011; PackageReference: DRC10-2400X1650TP; PackageDescription: 10-Pin Plastic Small Outline No-Lead, 3 x 3 x 1 mm Body, 0.5 mm Pitch, Exposed Pad; Supplier 1: Digi-Key; Supplier Part Number 1: 296-20690-2-ND; Supplier 2: Digi-Key; Supplier Part Number 2: 296-20690-1-ND; Supplier 3: Digi-Key; Supplier Part Number 3: 296-20690-6-ND; Supplier 4: Newark; Supplier Part Number 4: 10M0638; Supplier 5: Mouser; Supplier Part Number 5: 595-TPS62400DRCT; Eco-Plan: Green (RoHS & no Sb/Br); Synchronous Rectification: TRUE; Topology: Buck; Vout(Max)(V): 6; Vout(Min)(V): 0.6; Vout2(Max)(V): 6; Vout2(Min)(V): 0.6; Mounting Technology: Surface Mount; ComponentLink1Description: Datasheet; ComponentLink1URL: http://www.ti.com/general/docs/lit/getliterature.tsp?genericPartNumber=TPS62400&fileType=pdf; ComponentLink2Description: URL Link1; ComponentLink2URL: Samples URL:http://www.ti.com/product/tps62400#samples
footprint DRC10-2400X1650TP (SON, 10-Leads, Body 3x3mm, Pitch 0.5mm, Thermal Pad 2.4x1.65mm, TI Recommended)
pins: 1 ADJ2 (in) "Input to adjust output voltage of converter 2. In adjustable version (TPS62400) connect a external resistor divider between VOUT2, this pin and GND to set output voltage between 0.6V and VIN. At fixed output voltage version (See Datasheet)", 2 MODE/DATA (io) "This Pin has 2 functions: 1. Operation Mode selection: With low level, Power Save Mode is enabled where the device operates in PFM mode at light loads and enters automatically PWM mode at heavy loads. Pulling this PIN to (See Datasheet)", 3 VIN (power) "Supply voltage, connect to VBAT, 2.5V to 6V", 4 FB1 (in) "Direct feedback voltage sense input of converter 1, connect directly to Vout 1. An internal feed forward capacitor is connected between this pin and the error amplifier. In case of fixed output voltage versions or when the (See Datasheet)", 5 DEF_1 (in) "This pin defines the output voltage of converter 1. The pin acts either as analog input for output voltage setting via external resistors (TPS62400). For the TPS62400, an external resistor network needs to be connected to (See Datasheet)", 6 SW1 (power) "Switch Pin of Converter1. Connect to Inductor", 7 EN1 (in) "Enable Input for Converter1, active high", 8 GND (power) "GND for both converters; connect this pin to the PowerPAD", 9 EN2 (in) "Enable Input for Converter 2, active high", 10 SW2 (power) "Switch Pin of Converter 2. Connect to Inductor.", 11 PP (power) "Connect to GND"

## TPS62400DRCTG4
designator U?
Buck Adjustable Regulator with 2.5 to 6 V Input and 0.6 to 6 V Output, -40 to 85 degC, 10-Pin SON (DRC), Green (RoHS & no Sb/Br); PartNumber: TPS62400DRCTG4; Manufacturer: Texas Instruments; Duty Cycle(Max)(%): 100; Dynamic Voltage Scaling: true; Iout(Max)(A): 0.4; Iout2(Max)(A): 0.6; Iq(Typ)(mA): 0.032; Rating: Catalog; Regulated Outputs(#): 2; SubFamily: Step-Down Regulator; Switch Current Limit(Typ)(A): 1; Vin(Max)(V): 6; Vin(Min)(V): 2.5; DatasheetVersion: SLVS681E; PackageVersion: revL, Sep-2011; PackageReference: DRC10-2400X1650TP; PackageDescription: 10-Pin Plastic Small Outline No-Lead, 3 x 3 x 1 mm Body, 0.5 mm Pitch, Exposed Pad; Supplier 1: Digi-Key; Supplier Part Number 1: TPS62400DRCTG4-ND; Supplier 2: Farnell; Supplier Part Number 2: 1329597; Supplier 3: Farnell; Supplier Part Number 3: 1329597RL; Supplier 4: Newark; Supplier Part Number 4: 62M0747; Supplier 5: Newark; Supplier Part Number 5: 14M2501; Supplier 6: Mouser; Supplier Part Number 6: 595-TPS62400DRCTG4; Eco-Plan: Green (RoHS & no Sb/Br); Synchronous Rectification: TRUE; Topology: Buck; Vout(Max)(V): 6; Vout(Min)(V): 0.6; Vout2(Max)(V): 6; Vout2(Min)(V): 0.6; Mounting Technology: Surface Mount; ComponentLink1Description: Datasheet; ComponentLink1URL: http://www.ti.com/general/docs/lit/getliterature.tsp?genericPartNumber=TPS62400&fileType=pdf; ComponentLink2Description: URL Link1; ComponentLink2URL: Samples URL:http://www.ti.com/product/tps54611#samples
footprint DRC10-2400X1650TP (SON, 10-Leads, Body 3x3mm, Pitch 0.5mm, Thermal Pad 2.4x1.65mm, TI Recommended)
pins: 1 ADJ2 (in) "Input to adjust output voltage of converter 2. In adjustable version (TPS62400) connect a external resistor divider between VOUT2, this pin and GND to set output voltage between 0.6V and VIN. At fixed output voltage version (See Datasheet)", 2 MODE/DATA (io) "This Pin has 2 functions: 1. Operation Mode selection: With low level, Power Save Mode is enabled where the device operates in PFM mode at light loads and enters automatically PWM mode at heavy loads. Pulling this PIN to (See Datasheet)", 3 VIN (power) "Supply voltage, connect to VBAT, 2.5V to 6V", 4 FB1 (in) "Direct feedback voltage sense input of converter 1, connect directly to Vout 1. An internal feed forward capacitor is connected between this pin and the error amplifier. In case of fixed output voltage versions or when the (See Datasheet)", 5 DEF_1 (in) "This pin defines the output voltage of converter 1. The pin acts either as analog input for output voltage setting via external resistors (TPS62400). For the TPS62400, an external resistor network needs to be connected to (See Datasheet)", 6 SW1 (power) "Switch Pin of Converter1. Connect to Inductor", 7 EN1 (in) "Enable Input for Converter1, active high", 8 GND (power) "GND for both converters; connect this pin to the PowerPAD", 9 EN2 (in) "Enable Input for Converter 2, active high", 10 SW2 (power) "Switch Pin of Converter 2. Connect to Inductor.", 11 PP (power) "Connect to GND"